# Altium footprint library Fuse.PcbLib: 117 footprints (part 1 of 8)
Each footprint in its own frame and in the unit in brackets; x right, y up, seen from the top. Pads: shape width x height; smd on the part's side, far side on the other; paste and mask are expansions set on the pad; w line width, h text height; cw(c..) or ccw(c..) is an arc to the next point about the centre after c.
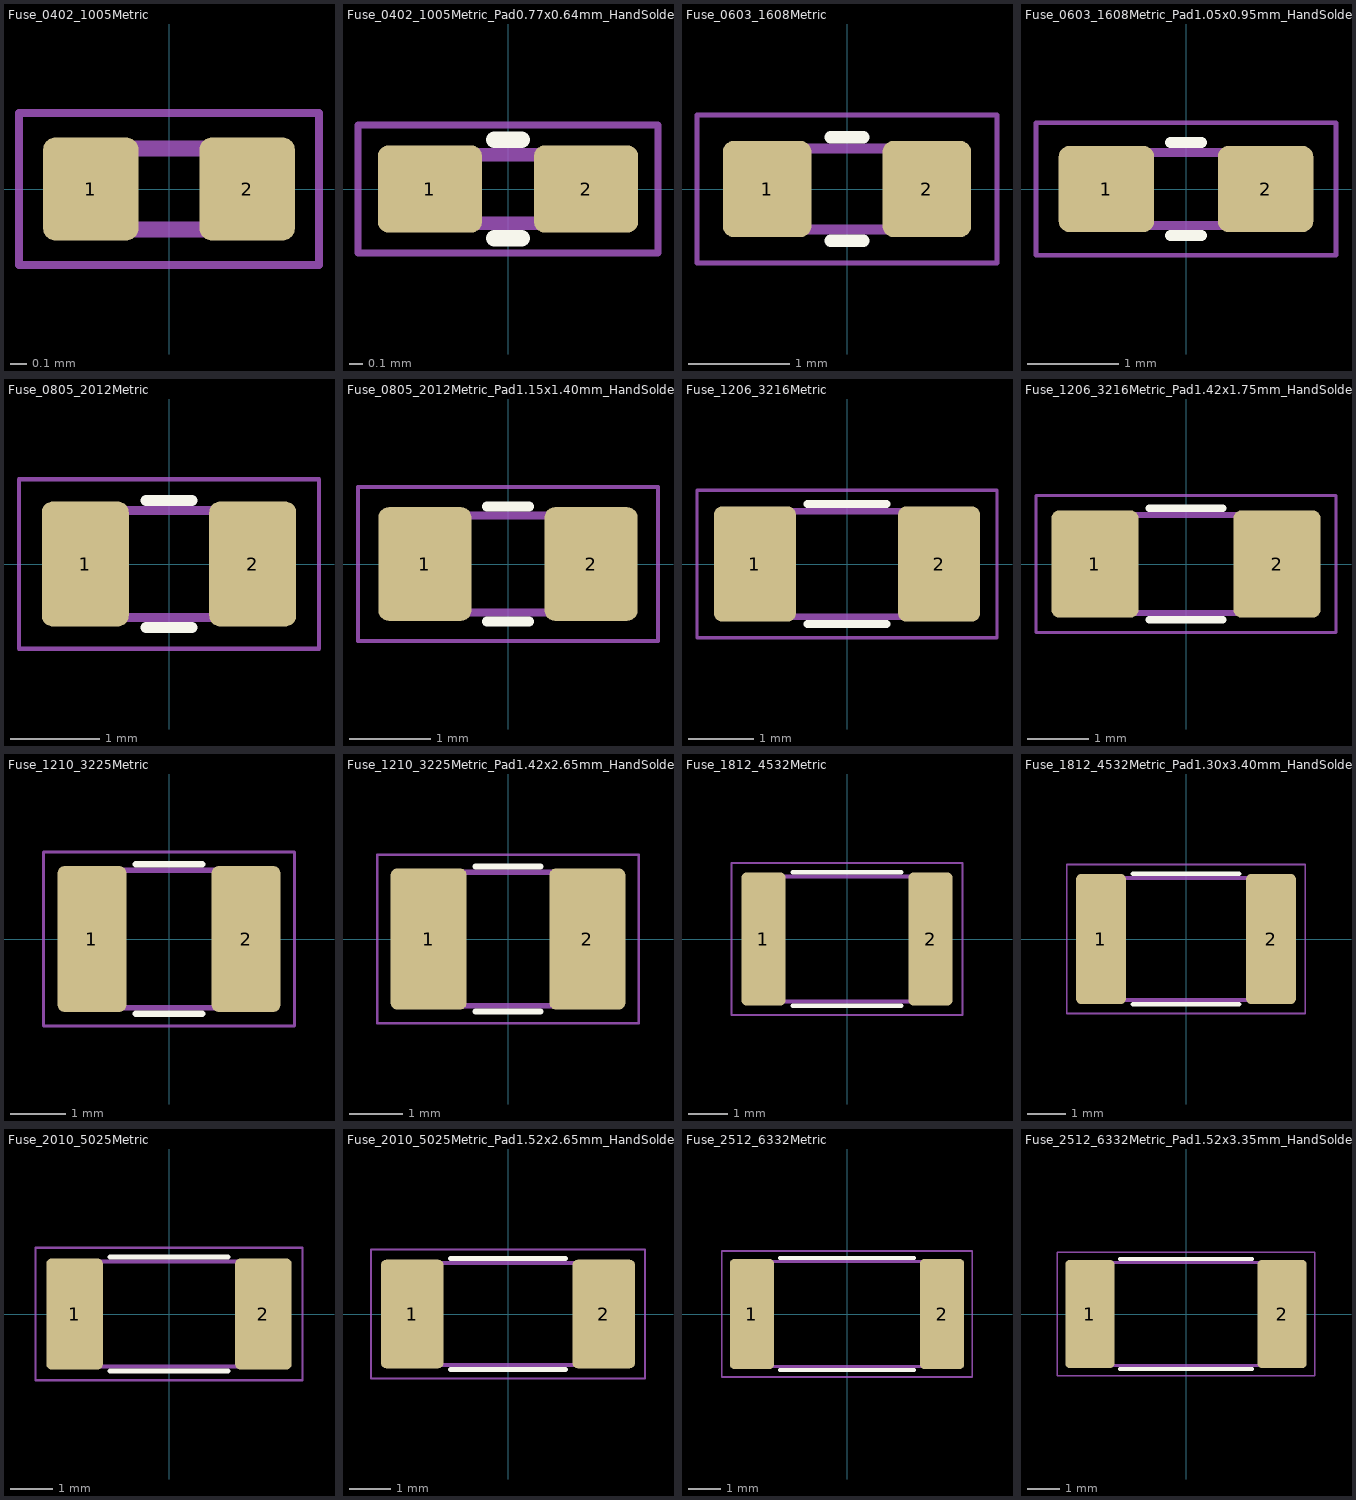
[diagram p0: the footprints below, top view; thin cyan lines are the x and y axes]

## Fuse_0402_1005Metric [mm]
pads (2):
  rrect25% 0.59x0.64 smd: 1(-0.485,0) 2(0.485,0)
F.CrtYd:
  lines w0.05: -0.93,-0.47 -0.93,0.47 0.93,0.47 0.93,-0.47 -0.93,-0.47
F.Fab:
  lines w0.1: -0.5,-0.25 -0.5,0.25 0.5,0.25 0.5,-0.25 -0.5,-0.25
  text "'.Designator'" at -1.014,-0.213 h0.25
3D body "Fuse_0402_1005Metric.step": height 0.35, standoff 0, extent -0.5,-0.26 0.5,0.26

## Fuse_0402_1005Metric_Pad0.77x0.64mm_HandSolder [mm]
pads (2):
  rrect25% 0.765x0.64 smd: 1(-0.573,0) 2(0.573,0)
F.SilkS:
  lines w0.12: -0.1,-0.36 0.1,-0.36 ; -0.1,0.36 0.1,0.36
F.CrtYd:
  lines w0.05: -1.1,-0.47 -1.1,0.47 1.1,0.47 1.1,-0.47 -1.1,-0.47
F.Fab:
  lines w0.1: -0.5,-0.25 0.5,-0.25 0.5,0.25 -0.5,0.25 -0.5,-0.25
  text "'.Designator'" at -0.974,-0.089 h0.25
3D body "Fuse_0402_1005Metric.step": height 0.35, standoff 0, extent -0.5,-0.26 0.5,0.26

## Fuse_0603_1608Metric [mm]
pads (2):
  rrect25% 0.875x0.95 smd: 1(-0.787,0) 2(0.787,0)
F.SilkS:
  lines w0.12: -0.163,-0.51 0.163,-0.51 ; -0.163,0.51 0.163,0.51
F.CrtYd:
  lines w0.05: -1.48,-0.73 -1.48,0.73 1.48,0.73 1.48,-0.73 -1.48,-0.73
F.Fab:
  lines w0.1: -0.8,-0.4 0.8,-0.4 0.8,0.4 -0.8,0.4 -0.8,-0.4
  text "'.Designator'" at -1.559,-0.143 h0.4
3D body "Fuse_0603_1608Metric.step": height 0.45, standoff 0, extent -0.8,-0.4 0.8,0.4

## Fuse_0603_1608Metric_Pad1.05x0.95mm_HandSolder [mm]
pads (2):
  rrect25% 1.05x0.95 smd: 1(-0.875,0) 2(0.875,0)
F.SilkS:
  lines w0.12: -0.171,-0.51 0.171,-0.51 ; -0.171,0.51 0.171,0.51
F.CrtYd:
  lines w0.05: -1.65,-0.73 -1.65,0.73 1.65,0.73 1.65,-0.73 -1.65,-0.73
F.Fab:
  lines w0.1: -0.8,-0.4 -0.8,0.4 0.8,0.4 0.8,-0.4 -0.8,-0.4
  text "'.Designator'" at -1.559,-0.143 h0.4
3D body "Fuse_0603_1608Metric.step": height 0.45, standoff 0, extent -0.8,-0.4 0.8,0.4

## Fuse_0805_2012Metric [mm]
pads (2):
  rrect25% 0.975x1.4 smd: 1(-0.937,0) 2(0.937,0)
F.SilkS:
  lines w0.12: -0.259,-0.71 0.259,-0.71 ; -0.259,0.71 0.259,0.71
F.CrtYd:
  lines w0.05: -1.68,-0.95 -1.68,0.95 1.68,0.95 1.68,-0.95 -1.68,-0.95
F.Fab:
  lines w0.1: -1,-0.6 -1,0.6 1,0.6 1,-0.6 -1,-0.6
  text "'.Designator'" at -1.948,-0.179 h0.5
3D body "Fuse_0805_2012Metric.step": height 0.45, standoff 0, extent -1,-0.625 1,0.625

## Fuse_0805_2012Metric_Pad1.15x1.40mm_HandSolder [mm]
pads (2):
  rrect22% 1.15x1.4 smd: 1(-1.025,0) 2(1.025,0)
F.SilkS:
  lines w0.12: -0.261,-0.71 0.261,-0.71 ; -0.261,0.71 0.261,0.71
F.CrtYd:
  lines w0.05: -1.85,-0.95 1.85,-0.95 1.85,0.95 -1.85,0.95 -1.85,-0.95
F.Fab:
  lines w0.1: -1,-0.6 1,-0.6 1,0.6 -1,0.6 -1,-0.6
  text "'.Designator'" at -1.948,-0.179 h0.5
3D body "Fuse_0805_2012Metric.step": height 0.45, standoff 0, extent -1,-0.625 1,0.625

## Fuse_1206_3216Metric [mm]
pads (2):
  rrect20% 1.25x1.75 smd: 1(-1.4,0) 2(1.4,0)
F.SilkS:
  lines w0.12: -0.602,-0.91 0.602,-0.91 ; -0.602,0.91 0.602,0.91
F.CrtYd:
  lines w0.05: -2.28,-1.12 -2.28,1.12 2.28,1.12 2.28,-1.12 -2.28,-1.12
F.Fab:
  lines w0.1: -1.6,-0.8 -1.6,0.8 1.6,0.8 1.6,-0.8 -1.6,-0.8
  text "'.Designator'" at -3.117,-0.286 h0.8
3D body "Fuse_1206_3216Metric.step": height 0.55, standoff 0, extent -1.6,-0.8 1.6,0.8

## Fuse_1206_3216Metric_Pad1.42x1.75mm_HandSolder [mm]
pads (2):
  rrect18% 1.425x1.75 smd: 1(-1.488,0) 2(1.488,0)
F.SilkS:
  lines w0.12: -0.602,-0.91 0.602,-0.91 ; -0.602,0.91 0.602,0.91
F.CrtYd:
  lines w0.05: -2.45,-1.12 2.45,-1.12 2.45,1.12 -2.45,1.12 -2.45,-1.12
F.Fab:
  lines w0.1: -1.6,-0.8 -1.6,0.8 1.6,0.8 1.6,-0.8 -1.6,-0.8
  text "'.Designator'" at -3.117,-0.286 h0.8
3D body "Fuse_1206_3216Metric.step": height 0.55, standoff 0, extent -1.6,-0.8 1.6,0.8

## Fuse_1210_3225Metric [mm]
pads (2):
  rrect20% 1.25x2.65 smd: 1(-1.4,0) 2(1.4,0)
F.SilkS:
  lines w0.12: -0.602,-1.36 0.602,-1.36 ; -0.602,1.36 0.602,1.36
F.CrtYd:
  lines w0.05: -2.28,-1.58 -2.28,1.58 2.28,1.58 2.28,-1.58 -2.28,-1.58
F.Fab:
  lines w0.1: -1.6,-1.25 -1.6,1.25 1.6,1.25 1.6,-1.25 -1.6,-1.25
  text "'.Designator'" at -3.237,-0.672 h0.8
3D body "Fuse_1210_3225Metric.step": height 1.6, standoff 0, extent -1.6,-1.25 1.6,1.25

## Fuse_1210_3225Metric_Pad1.42x2.65mm_HandSolder [mm]
pads (2):
  rrect18% 1.425x2.65 smd: 1(-1.488,0) 2(1.488,0)
F.SilkS:
  lines w0.12: -0.602,-1.36 0.602,-1.36 ; -0.602,1.36 0.602,1.36
F.CrtYd:
  lines w0.05: -2.45,-1.58 2.45,-1.58 2.45,1.58 -2.45,1.58 -2.45,-1.58
F.Fab:
  lines w0.1: -1.6,-1.25 -1.6,1.25 1.6,1.25 1.6,-1.25 -1.6,-1.25
  text "'.Designator'" at -3.237,-0.672 h0.8
3D body "Fuse_1210_3225Metric.step": height 1.6, standoff 0, extent -1.6,-1.25 1.6,1.25

## Fuse_1812_4532Metric [mm]
pads (2):
  rrect22% 1.125x3.4 smd: 1(-2.137,0) 2(2.137,0)
F.SilkS:
  lines w0.12: -1.386,-1.71 1.386,-1.71 ; -1.386,1.71 1.386,1.71
F.CrtYd:
  lines w0.05: -2.95,-1.95 -2.95,1.95 2.95,1.95 2.95,-1.95 -2.95,-1.95
F.Fab:
  lines w0.1: -2.25,-1.6 -2.25,1.6 2.25,1.6 2.25,-1.6 -2.25,-1.6
  text "'.Designator'" at -4.047,-0.84 h1

## Fuse_1812_4532Metric_Pad1.30x3.40mm_HandSolder [mm]
pads (2):
  rrect19% 1.3x3.4 smd: 1(-2.225,0) 2(2.225,0)
F.SilkS:
  lines w0.12: -1.386,-1.71 1.386,-1.71 ; -1.386,1.71 1.386,1.71
F.CrtYd:
  lines w0.05: -3.12,-1.95 -3.12,1.95 3.12,1.95 3.12,-1.95 -3.12,-1.95
F.Fab:
  lines w0.1: -2.25,-1.6 -2.25,1.6 2.25,1.6 2.25,-1.6 -2.25,-1.6
  text "'.Designator'" at -4.047,-0.84 h1

## Fuse_2010_5025Metric [mm]
pads (2):
  rrect19% 1.35x2.65 smd: 1(-2.25,0) 2(2.25,0)
F.SilkS:
  lines w0.12: -1.402,-1.36 1.402,-1.36 ; -1.402,1.36 1.402,1.36
F.CrtYd:
  lines w0.05: -3.18,-1.58 3.18,-1.58 3.18,1.58 -3.18,1.58 -3.18,-1.58
F.Fab:
  lines w0.1: -2.5,-1.25 -2.5,1.25 2.5,1.25 2.5,-1.25 -2.5,-1.25
  text "'.Designator'" at -4.047,-0.84 h1

## Fuse_2010_5025Metric_Pad1.52x2.65mm_HandSolder [mm]
pads (2):
  rrect16% 1.525x2.65 smd: 1(-2.338,0) 2(2.338,0)
F.SilkS:
  lines w0.12: -1.402,-1.36 1.402,-1.36 ; -1.402,1.36 1.402,1.36
F.CrtYd:
  lines w0.05: -3.35,-1.58 3.35,-1.58 3.35,1.58 -3.35,1.58 -3.35,-1.58
F.Fab:
  lines w0.1: -2.5,-1.25 2.5,-1.25 2.5,1.25 -2.5,1.25 -2.5,-1.25
  text "'.Designator'" at -4.047,-0.84 h1

## Fuse_2512_6332Metric [mm]
pads (2):
  rrect19% 1.35x3.35 smd: 1(-2.9,0) 2(2.9,0)
F.SilkS:
  lines w0.12: -2.052,-1.71 2.052,-1.71 ; -2.052,1.71 2.052,1.71
F.CrtYd:
  lines w0.05: -3.82,-1.92 3.82,-1.92 3.82,1.92 -3.82,1.92 -3.82,-1.92
F.Fab:
  lines w0.1: -3.15,-1.6 3.15,-1.6 3.15,1.6 -3.15,1.6 -3.15,-1.6
  text "'.Designator'" at -4.047,-0.84 h1

## Fuse_2512_6332Metric_Pad1.52x3.35mm_HandSolder [mm]
pads (2):
  rrect16% 1.525x3.35 smd: 1(-2.987,0) 2(2.987,0)
F.SilkS:
  lines w0.12: -2.052,-1.71 2.052,-1.71 ; -2.052,1.71 2.052,1.71
F.CrtYd:
  lines w0.05: -4,-1.92 4,-1.92 4,1.92 -4,1.92 -4,-1.92
F.Fab:
  lines w0.1: -3.15,-1.6 3.15,-1.6 3.15,1.6 -3.15,1.6 -3.15,-1.6
  text "'.Designator'" at -4.047,-0.84 h1